# EAGLE library part HDR-2X3 (library connector)
2x3 HDR size -Breakable strip
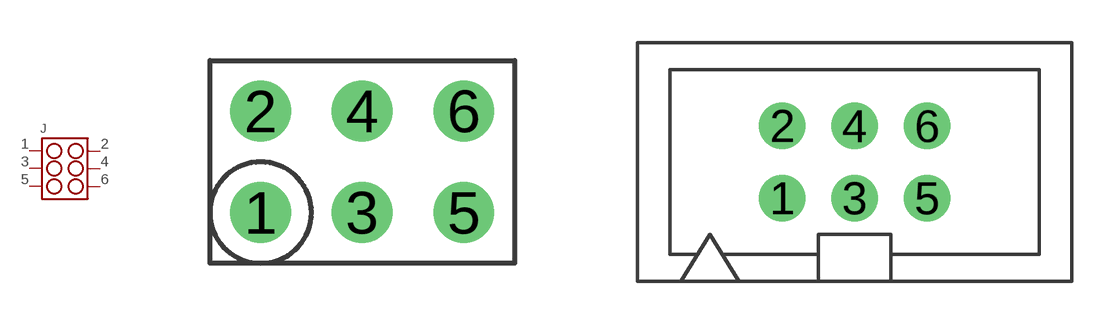
[diagram p1: symbol with the pads of HDR-2X3; footprints HDR-2X3, 30306-6002HB]

Designator prefix J

## HDR-2X3  [HDR-2X3]
1  1
2  2
3  3
4  4
5  5
6  6

## HDR-2X3SHROUDED (DIGIKEY: 3M15451-ND; MFR: 3M; MPN: 30306-6002HB)  [30306-6002HB]
Pads as for HDR-2X3

## Footprint HDR-2X3 (pad centres in mm)
drill 1.016: 1 -2.54,-1.27; 2 -2.54,1.27; 3 0,-1.27; 4 0,1.27; 5 2.54,-1.27; 6 2.54,1.27

## Footprint 30306-6002HB (pad centres in mm)
drill 1.092: 1 -2.54,-1.27; 2 -2.54,1.27; 3 0,-1.27; 4 0,1.27; 5 2.54,-1.27; 6 2.54,1.27